# Altium footprint library Switch-Touch.PcbLib: 5 footprints
Each footprint in its own frame and in the unit in brackets; x right, y up, seen from the top. Pads: shape width x height; smd on the part's side, far side on the other; paste and mask are expansions set on the pad; w line width, h text height; cw(c..) or ccw(c..) is an arc to the next point about the centre after c.
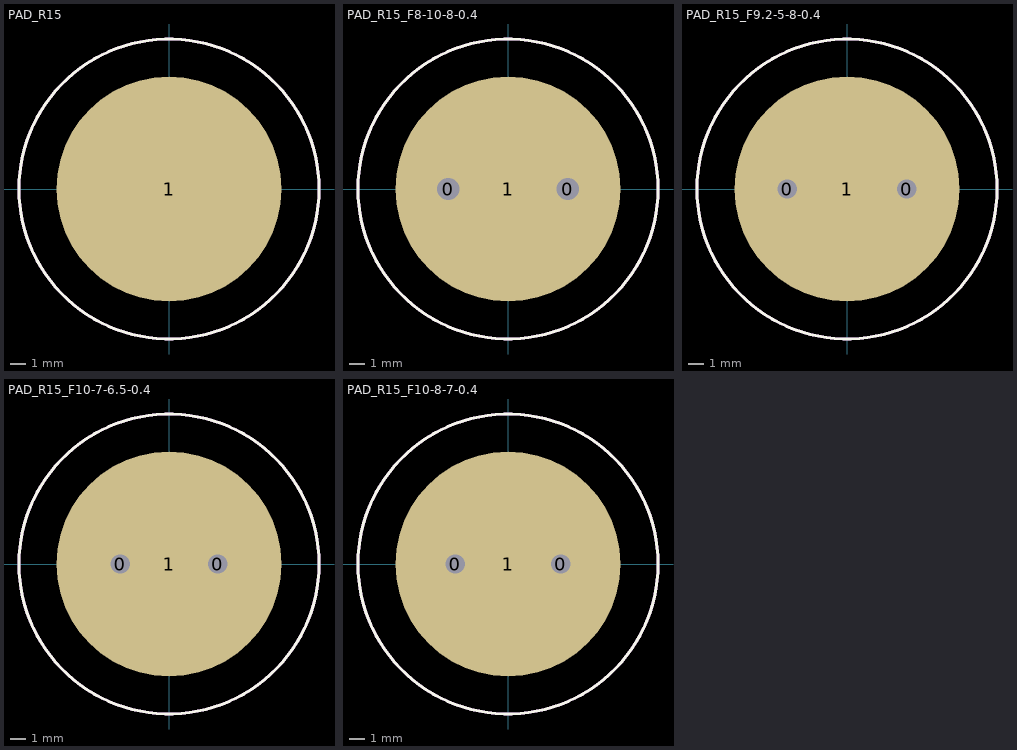
[diagram p0: the footprints below, top view; thin cyan lines are the x and y axes]

## PAD_R15 [mm] "直径15mm"
pads (1):
  round 15 smd: 1(0,0)
Top Overlay:
  circle w0.2: c0,0 r10
Top Value:
  text "'.Comment'" at -8.678,-1.159 h4
Top Designator:
  text "'.Designator'" at -11.494,-0.862 h4
Multi-Layer:
  pour cut-out: 0,-10 -0.491,-10 -1.469,-9.904 -2.433,-9.712 -3.373,-9.427 -4.281,-9.051 -5.147,-8.588 -5.964,-8.042 -6.724,-7.418 -7.418,-6.724 -8.042,-5.964 -8.588,-5.147 -9.051,-4.281 -9.427,-3.373 -9.712,-2.433 -9.904,-1.469 -10,-0.491 -10,0 -10,0.491 -9.904,1.469 -9.712,2.433 -9.427,3.373 -9.051,4.281 -8.588,5.147 -8.042,5.964 -7.418,6.724 -6.724,7.418 -5.964,8.042 -5.147,8.588 -4.281,9.051 -3.373,9.427 -2.433,9.712 -1.469,9.904 -0.491,10 0,10 0.491,10 1.469,9.904 2.433,9.712 3.373,9.427 4.281,9.051 5.147,8.588 5.964,8.042 6.724,7.418 7.418,6.724 8.042,5.964 8.588,5.147 9.051,4.281 9.427,3.373 9.712,2.433 9.904,1.469 10,0.491 10,0 10,-0.491 9.904,-1.469 9.712,-2.433 9.427,-3.373 9.051,-4.281 8.588,-5.147 8.042,-5.964 7.418,-6.724 6.724,-7.418 5.964,-8.042 5.147,-8.588 4.281,-9.051 3.373,-9.427 2.433,-9.712 1.469,-9.904 0.491,-10
Top Assembly (Mech20):
  circle w0.2: c0,0 r10

## PAD_R15_F8-10-8-0.4 [mm] "触摸弹簧 喇叭口 端面8，高度10，柱体8，线径0.4"
pads (3):
  round 2.5 hole 1.5 unplated: 0(-4,0) 0(4,0)
  round 15 smd: 1(0,0)
Top Overlay:
  circle w0.2: c0,0 r10
Top Value:
  text "'.Comment'" at -8.678,-1.159 h4
Top Designator:
  text "'.Designator'" at -11.494,-0.862 h4
Multi-Layer:
  pour cut-out: 0,-10 -0.491,-10 -1.469,-9.904 -2.433,-9.712 -3.373,-9.427 -4.281,-9.051 -5.147,-8.588 -5.964,-8.042 -6.724,-7.418 -7.418,-6.724 -8.042,-5.964 -8.588,-5.147 -9.051,-4.281 -9.427,-3.373 -9.712,-2.433 -9.904,-1.469 -10,-0.491 -10,0 -10,0.491 -9.904,1.469 -9.712,2.433 -9.427,3.373 -9.051,4.281 -8.588,5.147 -8.042,5.964 -7.418,6.724 -6.724,7.418 -5.964,8.042 -5.147,8.588 -4.281,9.051 -3.373,9.427 -2.433,9.712 -1.469,9.904 -0.491,10 0,10 0.491,10 1.469,9.904 2.433,9.712 3.373,9.427 4.281,9.051 5.147,8.588 5.964,8.042 6.724,7.418 7.418,6.724 8.042,5.964 8.588,5.147 9.051,4.281 9.427,3.373 9.712,2.433 9.904,1.469 10,0.491 10,0 10,-0.491 9.904,-1.469 9.712,-2.433 9.427,-3.373 9.051,-4.281 8.588,-5.147 8.042,-5.964 7.418,-6.724 6.724,-7.418 5.964,-8.042 5.147,-8.588 4.281,-9.051 3.373,-9.427 2.433,-9.712 1.469,-9.904 0.491,-10
Top Assembly (Mech20):
  circle w0.2: c0,0 r10
3D body "F8-10-03.step": height 10.65, standoff -2.35, extent -4.15,-4.15 4.15,4.15

## PAD_R15_F9.2-5-8-0.4 [mm] "触摸弹簧 喇叭口 端面9.2，高度5，柱体8，线径0.4"
pads (3):
  round 2.5 hole 1.3 unplated: 0(-4,0) 0(4,0)
  round 15 smd: 1(0,0)
Top Overlay:
  circle w0.2: c0,0 r10
Top Value:
  text "'.Comment'" at -8.678,-1.159 h4
Top Designator:
  text "'.Designator'" at -11.494,-0.862 h4
Multi-Layer:
  pour cut-out: 0,-10 -0.491,-10 -1.469,-9.904 -2.433,-9.712 -3.373,-9.427 -4.281,-9.051 -5.147,-8.588 -5.964,-8.042 -6.724,-7.418 -7.418,-6.724 -8.042,-5.964 -8.588,-5.147 -9.051,-4.281 -9.427,-3.373 -9.712,-2.433 -9.904,-1.469 -10,-0.491 -10,0 -10,0.491 -9.904,1.469 -9.712,2.433 -9.427,3.373 -9.051,4.281 -8.588,5.147 -8.042,5.964 -7.418,6.724 -6.724,7.418 -5.964,8.042 -5.147,8.588 -4.281,9.051 -3.373,9.427 -2.433,9.712 -1.469,9.904 -0.491,10 0,10 0.491,10 1.469,9.904 2.433,9.712 3.373,9.427 4.281,9.051 5.147,8.588 5.964,8.042 6.724,7.418 7.418,6.724 8.042,5.964 8.588,5.147 9.051,4.281 9.427,3.373 9.712,2.433 9.904,1.469 10,0.491 10,0 10,-0.491 9.904,-1.469 9.712,-2.433 9.427,-3.373 9.051,-4.281 8.588,-5.147 8.042,-5.964 7.418,-6.724 6.724,-7.418 5.964,-8.042 5.147,-8.588 4.281,-9.051 3.373,-9.427 2.433,-9.712 1.469,-9.904 0.491,-10
Top Assembly (Mech20):
  circle w0.2: c0,0 r10
3D body "F9.2-5-8-0.4.STEP": height 5.2, standoff -2.57, extent -4.839,-4.518 4.625,4.735

## PAD_R15_F10-7-6.5-0.4 [mm] "触摸弹簧 喇叭口 端面10，高度7，柱体6.5，线径0.4"
pads (3):
  round 2.5 hole 1.3 unplated: 0(-3.25,0) 0(3.25,0)
  round 15 smd: 1(0,0)
Top Overlay:
  circle w0.2: c0,0 r10
Top Value:
  text "'.Comment'" at -8.678,-1.159 h4
Top Designator:
  text "'.Designator'" at -11.494,-0.862 h4
Multi-Layer:
  pour cut-out: 0,-10 -0.491,-10 -1.469,-9.904 -2.433,-9.712 -3.373,-9.427 -4.281,-9.051 -5.147,-8.588 -5.964,-8.042 -6.724,-7.418 -7.418,-6.724 -8.042,-5.964 -8.588,-5.147 -9.051,-4.281 -9.427,-3.373 -9.712,-2.433 -9.904,-1.469 -10,-0.491 -10,0 -10,0.491 -9.904,1.469 -9.712,2.433 -9.427,3.373 -9.051,4.281 -8.588,5.147 -8.042,5.964 -7.418,6.724 -6.724,7.418 -5.964,8.042 -5.147,8.588 -4.281,9.051 -3.373,9.427 -2.433,9.712 -1.469,9.904 -0.491,10 0,10 0.491,10 1.469,9.904 2.433,9.712 3.373,9.427 4.281,9.051 5.147,8.588 5.964,8.042 6.724,7.418 7.418,6.724 8.042,5.964 8.588,5.147 9.051,4.281 9.427,3.373 9.712,2.433 9.904,1.469 10,0.491 10,0 10,-0.491 9.904,-1.469 9.712,-2.433 9.427,-3.373 9.051,-4.281 8.588,-5.147 8.042,-5.964 7.418,-6.724 6.724,-7.418 5.964,-8.042 5.147,-8.588 4.281,-9.051 3.373,-9.427 2.433,-9.712 1.469,-9.904 0.491,-10
Top Assembly (Mech20):
  circle w0.2: c0,0 r10
3D body "F10-7-6.5-0.4.STEP": height 7, standoff -3.06, extent -4.759,-4.476 4.569,4.658

## PAD_R15_F10-8-7-0.4 [mm] "触摸弹簧 喇叭口 端面10，高度8，柱体7，线径0.4"
pads (3):
  round 2.5 hole 1.3 unplated: 0(-3.5,0) 0(3.5,0)
  round 15 smd: 1(0,0)
Top Overlay:
  circle w0.2: c0,0 r10
Top Value:
  text "'.Comment'" at -8.678,-1.159 h4
Top Designator:
  text "'.Designator'" at -11.494,-0.862 h4
Multi-Layer:
  pour cut-out: 0,-10 -0.491,-10 -1.469,-9.904 -2.433,-9.712 -3.373,-9.427 -4.281,-9.051 -5.147,-8.588 -5.964,-8.042 -6.724,-7.418 -7.418,-6.724 -8.042,-5.964 -8.588,-5.147 -9.051,-4.281 -9.427,-3.373 -9.712,-2.433 -9.904,-1.469 -10,-0.491 -10,0 -10,0.491 -9.904,1.469 -9.712,2.433 -9.427,3.373 -9.051,4.281 -8.588,5.147 -8.042,5.964 -7.418,6.724 -6.724,7.418 -5.964,8.042 -5.147,8.588 -4.281,9.051 -3.373,9.427 -2.433,9.712 -1.469,9.904 -0.491,10 0,10 0.491,10 1.469,9.904 2.433,9.712 3.373,9.427 4.281,9.051 5.147,8.588 5.964,8.042 6.724,7.418 7.418,6.724 8.042,5.964 8.588,5.147 9.051,4.281 9.427,3.373 9.712,2.433 9.904,1.469 10,0.491 10,0 10,-0.491 9.904,-1.469 9.712,-2.433 9.427,-3.373 9.051,-4.281 8.588,-5.147 8.042,-5.964 7.418,-6.724 6.724,-7.418 5.964,-8.042 5.147,-8.588 4.281,-9.051 3.373,-9.427 2.433,-9.712 1.469,-9.904 0.491,-10
Top Assembly (Mech20):
  circle w0.2: c0,0 r10
3D body "F10-8-7-0.4.STEP": height 8, standoff -3.06, extent -5.009,-4.725 4.82,4.915